# EAGLE library part BIENAP4DAUVA9O (library BIENAP4DAUVAO)
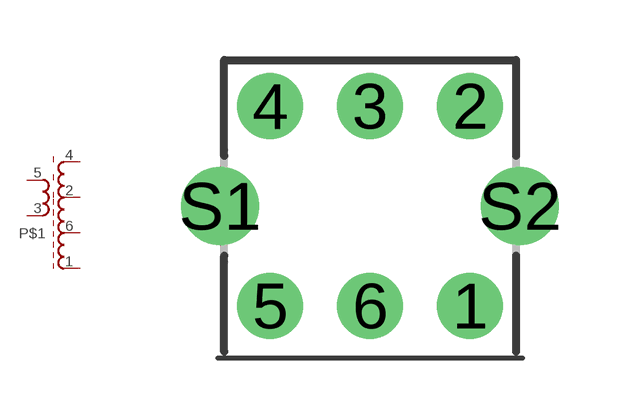
[diagram p0: symbol with the pads of BIENAP4DAUVAO; footprint BIENAP4DAUVAO]

Designator prefix -

## BIENAP4DAUVA9O  [BIENAP4DAUVAO]
1  A1  pas
2  A2  pas
3  A4  pas
4  E2  pas
5  E3  pas
6  P$1  pas

## Footprint BIENAP4DAUVAO (pad centres in mm)
drill 1.1 round: 1 -7.66,-2.5; 2 -7.66,2.5; 3 -10.16,2.5; 4 -12.66,2.5; 5 -12.66,-2.5; 6 -10.16,-2.5
drill 1.3 round: S1 -13.91,0; S2 -6.41,0